# Altium footprint library Capacitor - Supper Capacitor.PcbLib: 1 footprints
Each footprint in its own frame and in the unit in brackets; x right, y up, seen from the top. Pads: shape width x height; smd on the part's side, far side on the other; paste and mask are expansions set on the pad; w line width, h text height; cw(c..) or ccw(c..) is an arc to the next point about the centre after c.
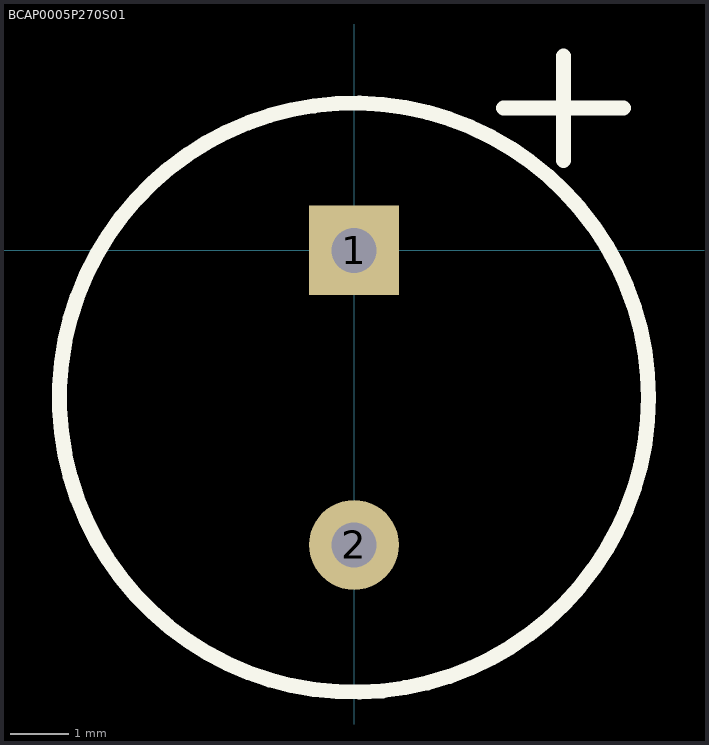
[diagram p0: the footprint, top view; thin cyan lines are the x and y axes]

## BCAP0005P270S01 [mil] "CAP 5F -10% +20% 2.7V T/H"
height 807.09
pads (2):
  rect 60x60 hole 30: 1(0,0)
  round 60 hole 30: 2(0,-196.85)
Top Overlay:
  circle w10: c0,-98.43 r196.85
  lines w10: 100,95 180,95 ; 140,60 140,130
3D body "BCAP0005P270S01.STEP": height 795.81, standoff -748.03, extent -196.84,-296.84 196.86,96.86